# Altium schematic symbol library HyTechFrames.SCHLIB: 2 symbols
Pins are listed as number, name and electrical type; pins without a type are passive.

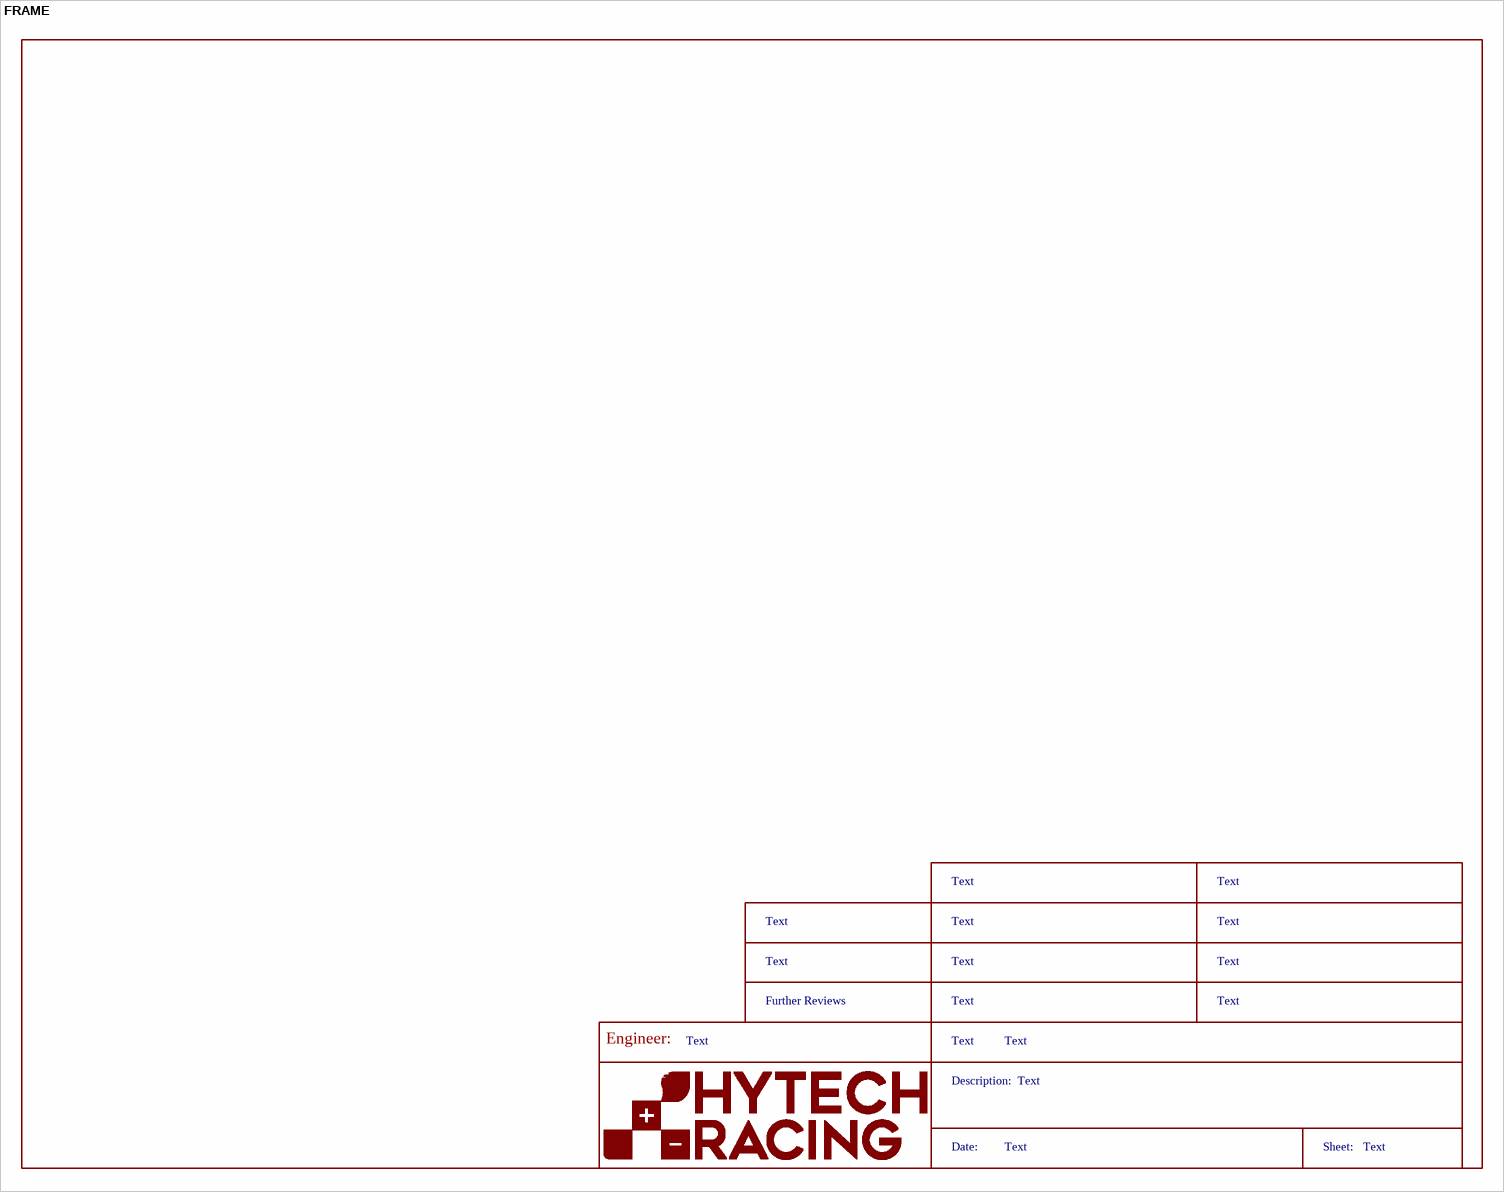
[diagram p0: symbol FRAME]

## FRAME
designator FRAME?, comment HyTech Racing Frame (ANSI Size A)  Prints on US Letter Landscape 8.5" by 11"   Fill Engineer/Description Fields with Text using the following settings:  Size: 0.1  Ratio: 8%  Line Distance: 50%  Font: Proportional  Layer: 94 Symbol  (value not drawn)
GateName_1: O; SymbolName_1: FRAME; LibraryName: HyTechFrames; DeviceSetName: FRAME
text: Text; Further Reviews; Engineer:; Description:; Date:; Sheet:

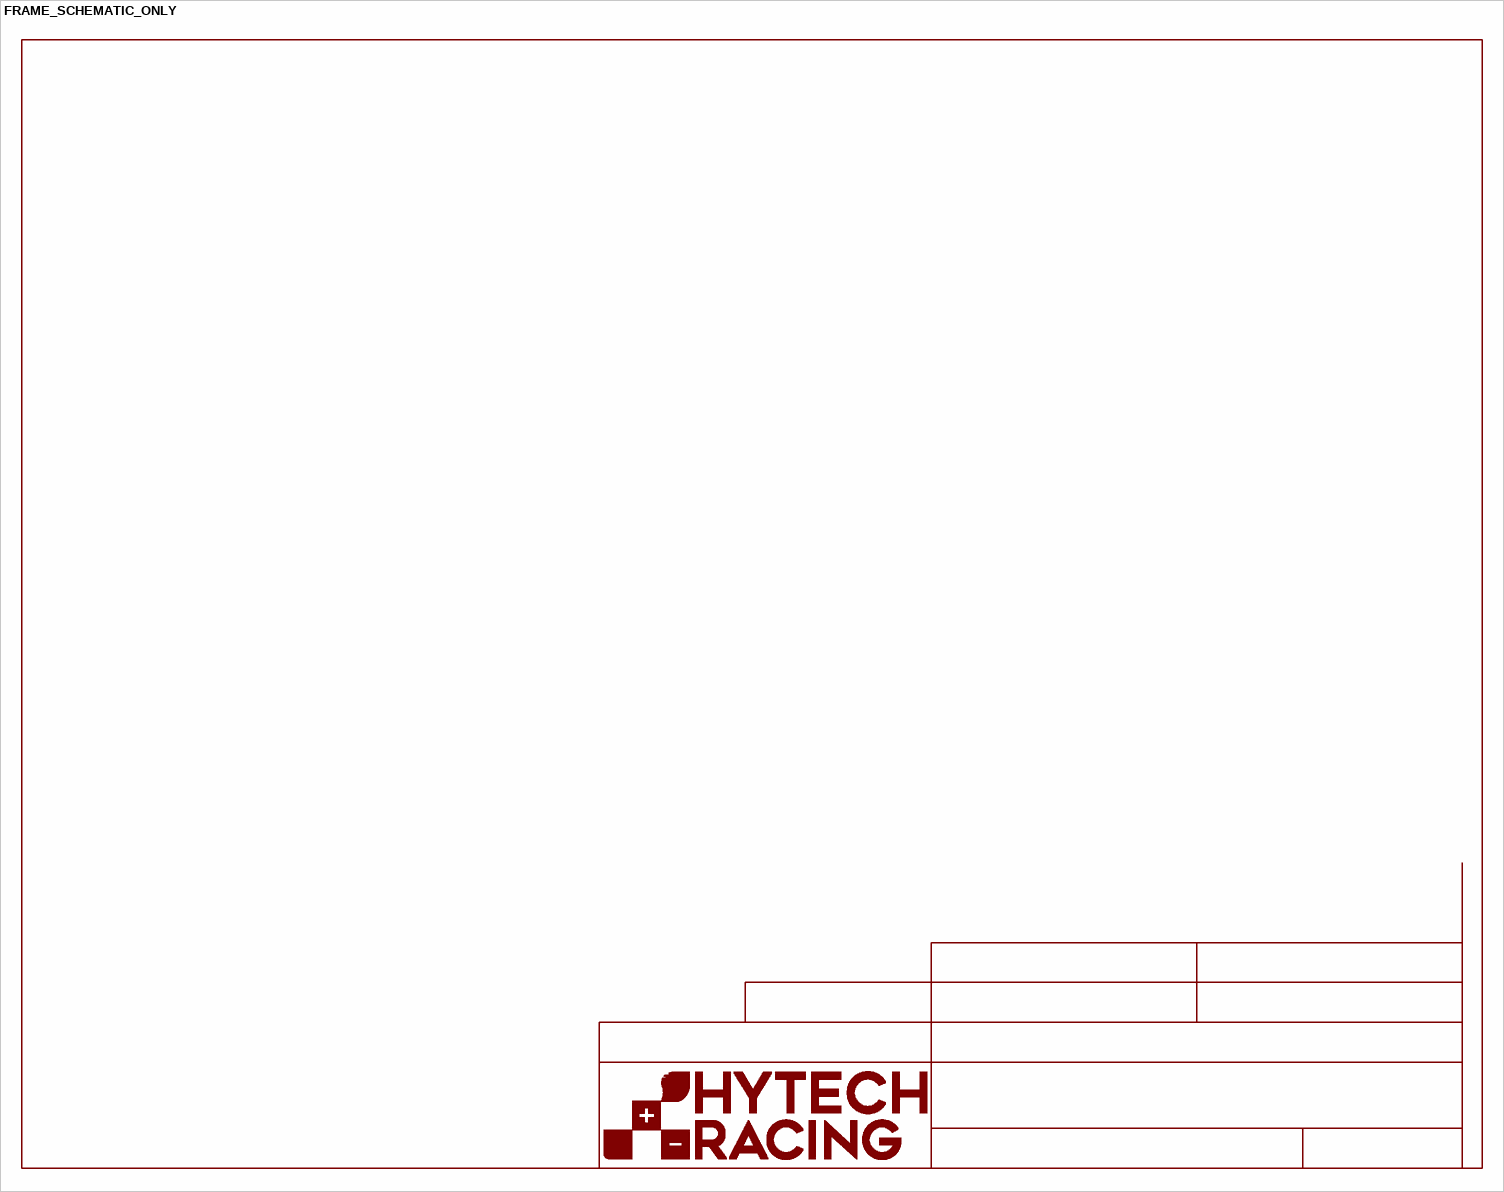
[diagram p1: symbol FRAME_SCHEMATIC_ONLY]

## FRAME_SCHEMATIC_ONLY
designator ?, comment HyTech Racing Frame (ANSI Size A), For Schematics unrelated to physcial circuitry.  Prints on US Letter Landscape 8.5" by 11"   Fill Engineer/Description Fields with Text using the following settings:  Size: 0.1  Ratio: 8%  Line Distance: 50%  Font: Proportional  Layer: 94 Symbol  (value not drawn)
GateName_1: G$1; SymbolName_1: FRAME_SCHEMATIC_ONLY; LibraryName: HyTechFrames; DeviceSetName: FRAME_SCHEMATIC_ONLY